# EAGLE library part LISA_POWER (library Highwind)
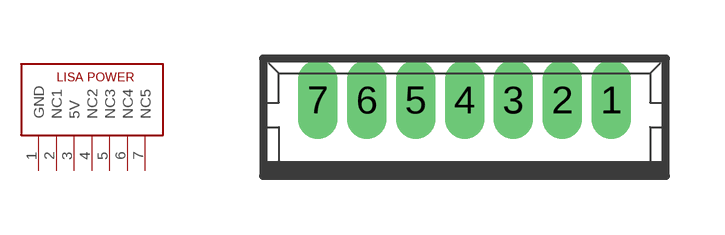
[diagram p4: symbol with the pads of 53047-07-STANDARD; footprint 53047-07-STANDARD]

Designator prefix -

## LISA_POWER  [53047-07-STANDARD]
1  GND  pwr
2  NC1
3  5V  pwr
4  NC2
5  NC3
6  NC4
7  NC5

## Footprint 53047-07-STANDARD (pad centres in mm)
CONNECTOR wire to board 1.25 mm (.049 inch) pitch header straight Sourcxe: http://www.molex.com/pdm_docs/sd/530470210_sd.pdf
drill 0.5 pad 0.698 long: 1 3.75,0.45; 2 2.5,0.45; 3 1.25,0.45; 4 0,0.45; 5 -1.25,0.45; 6 -2.5,0.45; 7 -3.75,0.45